# Altium footprint library PCB - LEADLESS - QFN - IR PQFN-8.PCBLIB: 1 footprints
Each footprint in its own frame and in the unit in brackets; x right, y up, seen from the top. Pads: shape width x height; smd on the part's side, far side on the other; paste and mask are expansions set on the pad; w line width, h text height; cw(c..) or ccw(c..) is an arc to the next point about the centre after c.
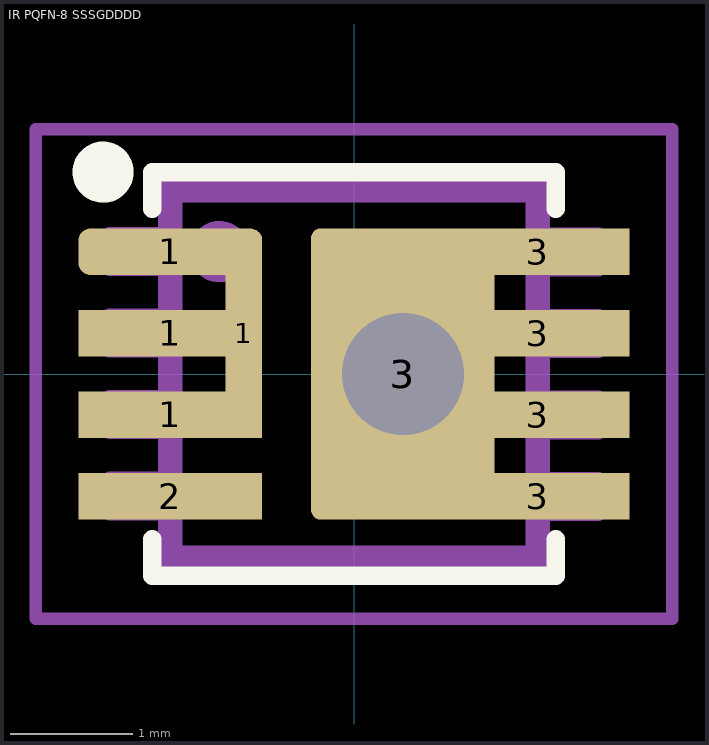
[diagram p0: the footprint, top view; thin cyan lines are the x and y axes]

## IR PQFN-8 SSSGDDDD [mm] "PQFN, 8-Leads, Body 3.00x3.00mm, Pitch 0.666mm, Thermal Pad 1.25x2.3mm, IPC Medium Density"
height 1
pads (11):
  rect 1.5x0.38 smd: 1(-1.5,-0.333) 1(-1.5,0.333) 2(-1.5,-0.999) 3(1.5,-0.999) 3(1.5,-0.333) 3(1.5,0.333) 3(1.5,0.999)
  rrect50% 1.5x0.38 smd: 1(-1.5,0.999)
  rect 0.3x1.5 smd: 1(-0.9,0.333)
  round 1.5 hole 1: 3(0.4,0)
  rrect10% 1.5x2.38 smd: 3(0.4,0)
Top Overlay:
  circle w0.3: c-2.05,1.65 r0.1
  lines w0.15: -1.65,-1.35 -1.65,-1.65 1.65,-1.65 1.65,-1.35 ; -1.65,1.35 -1.65,1.65 1.65,1.65 1.65,1.35
Mechanical 13:
  circle w0.3: c-1.1,1 r0.1
  lines w0.1: -1.5,-1.148 -2,-1.148 -2,-0.848 -1.5,-0.848 ; -1.5,-0.482 -2,-0.482 -2,-0.182 -1.5,-0.182 ; -1.5,0.184 -2,0.184 -2,0.484 -1.5,0.484 ; -1.5,0.85 -2,0.85 -2,1.15 -1.5,1.15 ; 1.5,-1.15 2,-1.15 2,-0.85 1.5,-0.85 ; 1.5,-0.484 2,-0.484 2,-0.184 1.5,-0.184 ; 1.5,0.182 2,0.182 2,0.482 1.5,0.482 ; 1.5,0.848 2,0.848 2,1.148 1.5,1.148
  lines w0.2: -1.5,-1.5 1.5,-1.5 1.5,1.5 -1.5,1.5 -1.5,-1.5
Mechanical 15:
  lines w0.1: -2.6,-2 2.6,-2 2.6,2 -2.6,2 -2.6,-2
Mechanical 2 (Mech9):
  lines w0.1: -0.3,0 0.3,0 ; 0,-0.3 0,0.3
3D body: height 0.2, standoff 0, extent 1.4,-1.125 1.6,-0.825
3D body: height 0.2, standoff 0, extent 1.4,-0.475 1.6,-0.175
3D body: height 0.2, standoff 0, extent 1.4,0.175 1.6,0.475
3D body: height 0.2, standoff 0, extent 1.4,0.825 1.6,1.125
3D body: height 0.2, standoff 0, extent -1.6,0.825 -1.4,1.125
3D body: height 0.2, standoff 0, extent -1.6,0.175 -1.4,0.475
3D body: height 0.2, standoff 0, extent -1.6,-1.125 -1.4,-0.825
3D body: height 0.2, standoff 0, extent -1.6,-0.475 -1.4,-0.175
3D body: height 0.95, standoff 0.05, extent -1.5,-1.58 1.5,1.58